# Altium footprint library OS102011MS2QN1.PcbLib: 1 footprints
Each footprint in its own frame and in the unit in brackets; x right, y up, seen from the top. Pads: shape width x height; smd on the part's side, far side on the other; paste and mask are expansions set on the pad; w line width, h text height; cw(c..) or ccw(c..) is an arc to the next point about the centre after c.
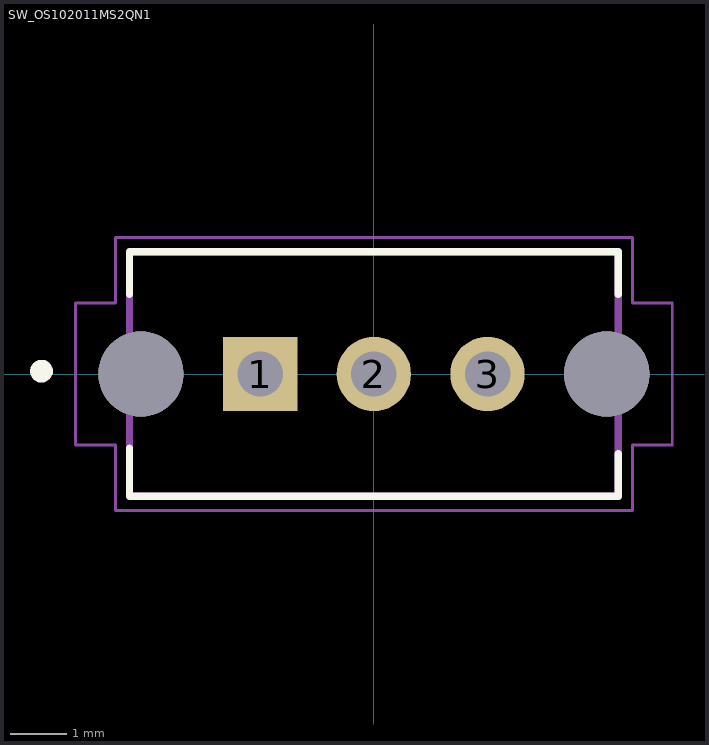
[diagram p0: the footprint, top view; thin cyan lines are the x and y axes]

## SW_OS102011MS2QN1 [mm]
pads (5):
  rect 1.308x1.308 hole 0.8: 1(-2,0)
  round 1.308 hole 0.8: 2(0,0) 3(2,0)
  round 1.5 hole 1.5 unplated: ""(-4.1,0) ""(4.1,0)
Top Overlay:
  circle w0.2: c-5.85,0.05 r0.1
  lines w0.127: -4.3,-1.3 -4.3,-2.15 4.3,-2.15 4.3,-1.4 ; -4.3,1.4 -4.3,2.15 4.3,2.15 4.3,1.4
Mechanical 13:
  circle w0.2: c-2.1,0.05 r0.1
  lines w0.127: -4.3,-2.15 -4.3,2.15 4.3,2.15 4.3,-2.15 -4.3,-2.15
Mechanical 15:
  lines w0.05: -5.25,-1.25 -5.25,1.25 -4.55,1.25 -4.55,2.4 4.55,2.4 4.55,1.25 5.25,1.25 5.25,-1.25 4.55,-1.25 4.55,-2.4 -4.55,-2.4 -4.55,-1.25 -5.25,-1.25
3D body "step_temp.STEP": height 4.4, standoff -7.1, extent -4.3,-2.15 4.3,2.15